# Altium schematic symbol library TH General purpose rectifiers.SchLib: 2 symbols
Pins are listed as number, name and electrical type; pins without a type are passive.

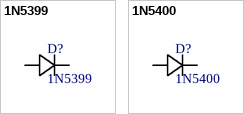
[diagram p0: symbols 1N5399 to 1N5400]

## 1N5399
designator D?
1000V 1.5A General Purpose Rectifier; Ifwd_surge_max_8.3ms: 50 A; Vrms_max: 700 V; Vfw_max_1.5A: 1.4V; Ifwd_avg_max: 1.5 A; Vrev_max: 1000 V
footprint DO-204AL (DO-41)
pins: A, K

## 1N5400
designator D?
50V 3A General Purpose Rectifier; Ifwd_surge_max_8.3ms: 200 A; Vrms_max: 35 V; Vfw_max_3A: 1.1 V; Ifwd_avg_max: 3 A; Vrev_max: 50 V
footprint DO-201AD
pins: A, K